# Altium footprint library KeyBoard_hot_swap.PcbLib: 6 footprints
Each footprint in its own frame and in the unit in brackets; x right, y up, seen from the top. Pads: shape width x height; smd on the part's side, far side on the other; paste and mask are expansions set on the pad; w line width, h text height; cw(c..) or ccw(c..) is an arc to the next point about the centre after c.
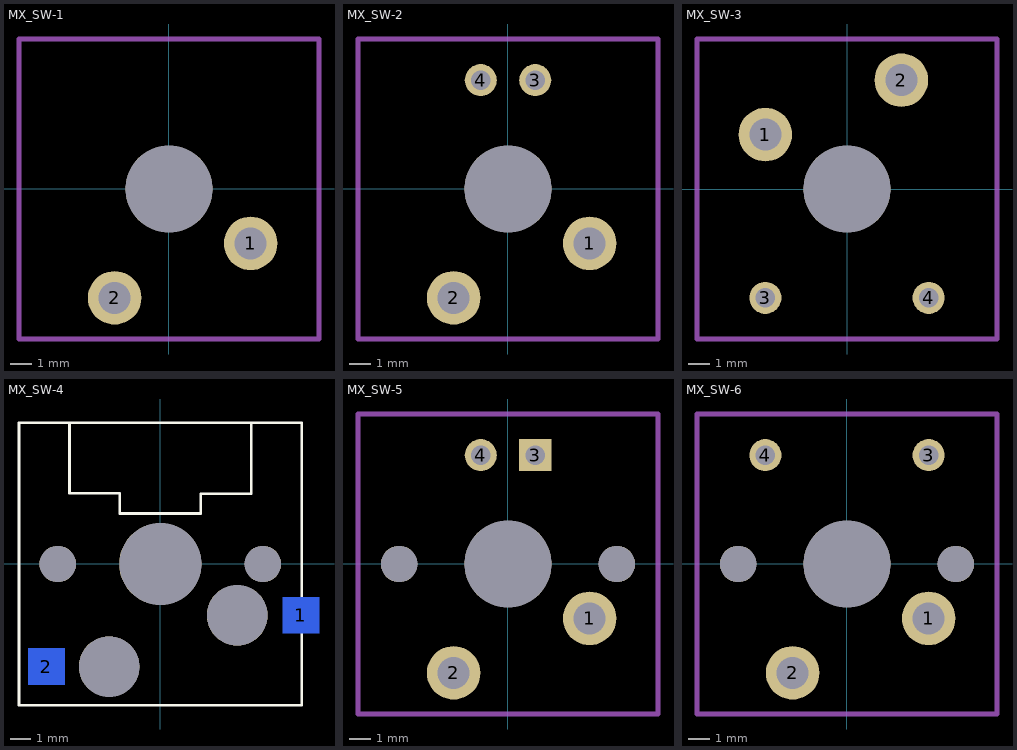
[diagram p0: the footprints below, top view; thin cyan lines are the x and y axes]

## MX_SW-1 [mm] "without Fixation pins  1-Pole"
pads (3):
  round 2.5 hole 1.5: 1(3.81,-2.54) 2(-2.54,-5.08)
  round 4.064 hole 4.064: ""(0,0)
Mechanical 1:
  lines w0.254: -7,-7 7,-7 7,7 -7,7 -7,-7

## MX_SW-2 [mm] "without Fixation pins  1-Pole w/LED"
pads (5):
  round 2.5 hole 1.5: 1(3.81,-2.54) 2(-2.54,-5.08)
  round 1.5 hole 0.9: 3(1.27,5.08) 4(-1.27,5.08)
  round 4.064 hole 4.064: ""(0,0)
Mechanical 1:
  lines w0.254: -7,-7 7,-7 7,7 -7,7 -7,-7

## MX_SW-3 [mm] "without Fixation pins  1-Pole w/Diode"
pads (5):
  round 2.5 hole 1.5: 1(-3.81,2.54) 2(2.54,5.08)
  round 1.5 hole 0.9: 3(-3.81,-5.08) 4(3.81,-5.08)
  round 4.064 hole 4.064: ""(0,0)
Mechanical 1:
  lines w0.254: -7,-7 -7,7 7,7 7,-7 -7,-7

## MX_SW-4 [mm] "with Fixation pins  1-Pole"
pads (7):
  rect 1.8x1.8 smd far side: 1(6.96,-2.54) 2(-5.64,-5.08)
  round 1.8 hole 1.8: ""(-5.08,0) ""(5.08,0)
  round 3 hole 3: ""(-2.54,-5.08) ""(3.81,-2.54)
  round 4.064 hole 4.064: ""(0,0)
Top Overlay:
  lines w0.127: -4.5,6.981 -4.5,3.5 -2,3.5 ; -2,3.48 -2,2.5 2,2.5 2,3.48 4.5,3.48 4.5,6.981 ; -7,-7 7,-7 7,7 -7,7 -7,-7
3D body "MX ?????.STEP": height 23.25, standoff 12, extent -9,-8.983 9,9.017
3D body "cherry mx.STEP": height 14.8, standoff -3.05, extent -7.82,-8.165 7.82,8.165
3D body: height 2, standoff 0, extent -4.826,-6.883 6.096,-0.965

## MX_SW-5 [mm] "with Fixation pins  1-Pole w/LED"
pads (7):
  round 2.5 hole 1.5: 1(3.81,-2.54) 2(-2.54,-5.08)
  rect 1.5x1.5 hole 0.9: 3(1.27,5.08)
  round 1.5 hole 0.9: 4(-1.27,5.08)
  round 1.702 hole 1.702: ""(-5.08,0) ""(5.08,0)
  round 4.064 hole 4.064: ""(0,0)
Mechanical 1:
  lines w0.254: -7,-7 -7,7 7,7 7,-7 -7,-7

## MX_SW-6 [mm] "with Fixation pins  1-Pole w/Diode"
pads (7):
  round 2.5 hole 1.5: 1(3.81,-2.54) 2(-2.54,-5.08)
  round 1.5 hole 0.9: 3(3.81,5.08) 4(-3.81,5.08)
  round 1.702 hole 1.702: ""(-5.08,0) ""(5.08,0)
  round 4.064 hole 4.064: ""(0,0)
Mechanical 1:
  lines w0.254: -7,-7 7,-7 7,7 -7,7 -7,-7